# Altium schematic symbol library GPS01-TD.SchLib: 1 symbol
Pins are listed as number, name and electrical type; pins without a type are passive.

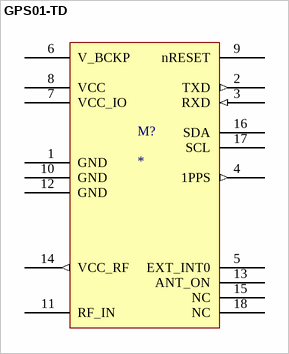
[diagram p0: symbol GPS01-TD]

## GPS01-TD
designator M?
GPS01-TD
footprint GPS01-TD
pins: 1 GND, 2 TXD (out), 3 RXD (in), 4 1PPS (out), 5 EXT_INT0, 6 V_BCKP, 7 VCC_IO, 8 VCC, 9 nRESET, 10 GND, 11 RF_IN, 12 GND, 13 ANT_ON, 14 VCC_RF (out), 15 NC, 16 SDA, 17 SCL, 18 NC